# Altium footprint library TO254P1050X476X2020-3.PcbLib: 1 footprints
Each footprint in its own frame and in the unit in brackets; x right, y up, seen from the top. Pads: shape width x height; smd on the part's side, far side on the other; paste and mask are expansions set on the pad; w line width, h text height; cw(c..) or ccw(c..) is an arc to the next point about the centre after c.
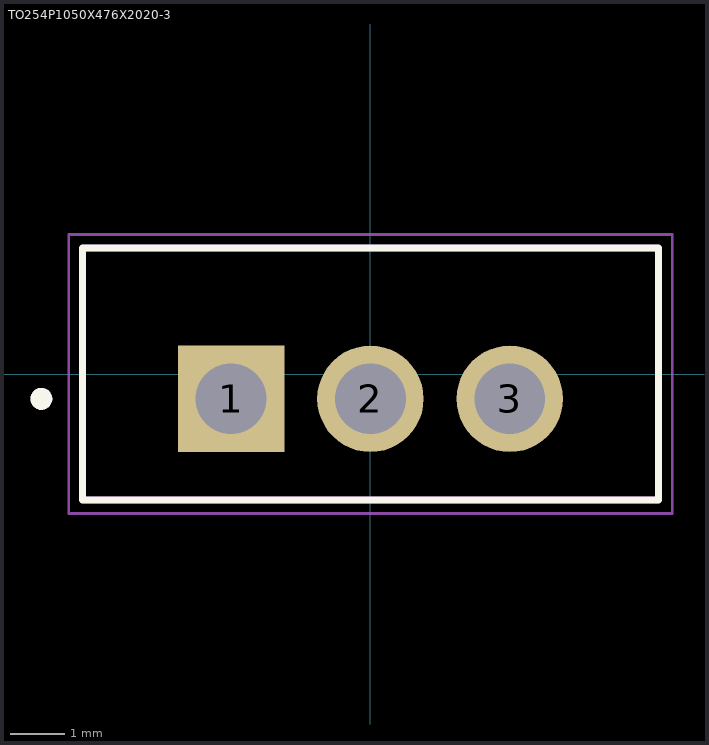
[diagram p0: the footprint, top view; thin cyan lines are the x and y axes]

## TO254P1050X476X2020-3 [mm]
height 20.2
pads (3):
  rect 1.94x1.94 hole 1.29: 1(-2.54,-0.453)
  round 1.94 hole 1.29: 2(0,-0.453) 3(2.54,-0.453)
Top Overlay:
  circle w0.2: c-6,-0.453 r0.1
  lines w0.127: -5.25,-2.295 -5.25,2.295 5.25,2.295 5.25,-2.295 -5.25,-2.295
Mechanical 13:
  circle w0.2: c-6,-0.453 r0.1
  lines w0.127: -5.25,-2.295 -5.25,2.295 5.25,2.295 5.25,-2.295 -5.25,-2.295
Mechanical 15:
  lines w0.05: -5.5,-2.545 -5.5,2.545 5.5,2.545 5.5,-2.545 -5.5,-2.545
3D body "step_temp.STEP": height 20.2, standoff -10.59, extent -5.25,-2.295 5.25,2.295